# Altium footprint library ECE315.PcbLib: 10 footprints
Each footprint in its own frame and in the unit in brackets; x right, y up, seen from the top. Pads: shape width x height; smd on the part's side, far side on the other; paste and mask are expansions set on the pad; w line width, h text height; cw(c..) or ccw(c..) is an arc to the next point about the centre after c.
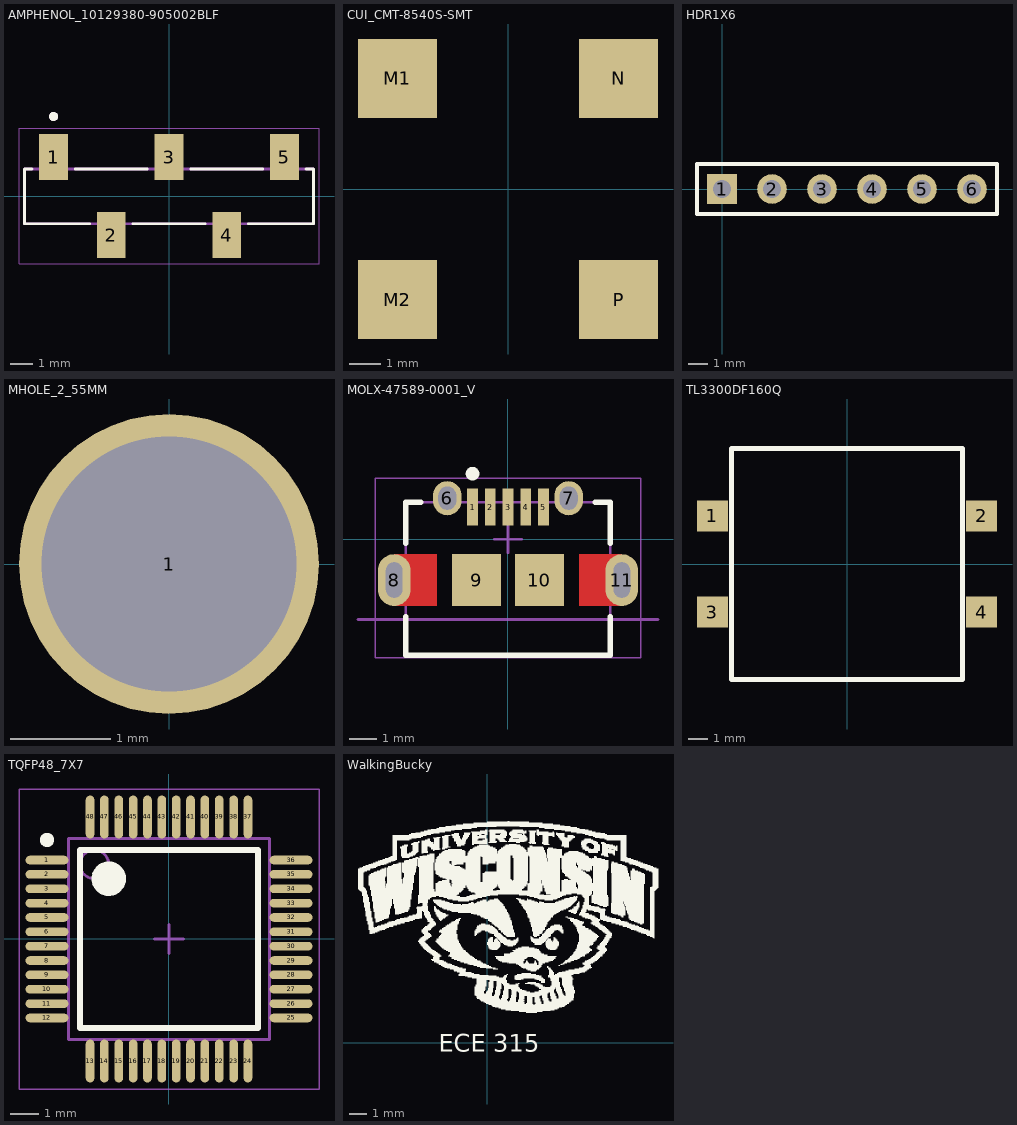
[diagram p0: the footprints below, top view; thin cyan lines are the x and y axes]

## AMPHENOL_10129380-905002BLF [mm]
pads (5):
  rect 1.27x2.03 smd mask+0.05: 1(-5.08,1.715) 2(-2.54,-1.715) 3(0,1.715) 4(2.54,-1.715) 5(5.08,1.715)
Top Overlay:
  circle w0.2: c-5.08,3.5 r0.1
  lines w0.127: -6.035,1.19 -6.35,1.19 -6.35,-1.22 -3.495,-1.22 ; -4.125,1.19 -0.955,1.19 ; -1.585,-1.22 1.585,-1.22 ; 0.955,1.19 4.125,1.19 ; 3.495,-1.22 6.35,-1.22 6.35,1.19 6.035,1.19
Mechanical 13:
  circle w0.2: c-5.08,3.5 r0.1
  lines w0.127: -6.35,-1.22 -6.35,1.19 6.35,1.19 6.35,-1.22 -6.35,-1.22
Mechanical 15:
  lines w0.05: -6.6,-2.98 -6.6,2.98 6.6,2.98 6.6,-2.98 -6.6,-2.98
3D body "step_temp.STEP": height 12.07, standoff 0.18, extent -6.27,-2.382 6.43,2.412

## CUI_CMT-8540S-SMT [mm]
pads (4):
  rect 2.5x2.5 smd: M1(-3.5,3.5) M2(-3.5,-3.5) N(3.5,3.5) P(3.5,-3.5)

## HDR1X6 [mm]
pads (6):
  rect 1.5x1.5 hole 0.9: 1(0,0)
  round 1.5 hole 0.9: 2(2.54,0) 3(5.08,0) 4(7.62,0) 5(10.16,0) 6(12.7,0)
Top Overlay:
  lines w0.2: -1.27,-1.27 13.97,-1.27 13.97,1.27 -1.27,1.27 -1.27,-1.27

## MHOLE_2_55MM [mm]
pads (1):
  round 3 / inner round 4.572 / far side round 4.318 hole 2.55: 1(0,0)

## MOLX-47589-0001_V [mm]
pads (11):
  rect 0.4x1.35 smd: 1(-1.3,1.175) 2(-0.65,1.175) 3(0,1.175) 4(0.65,1.175) 5(1.3,1.175)
  oval 1.05x1.25 hole 0.65 slot 0.85 at 90 deg: 6(-2.225,1.5) 7(2.225,1.5)
  oval 1.2x1.9 hole 0.6 slot 1.3 at 90 deg: 8(-4.175,-1.5) 11(4.175,-1.5)
  rect 1.8x1.9 smd: 9(-1.15,-1.5) 10(1.15,-1.5)
Top Layer:
  region: -2.6,-0.55 -4.175,-0.55 -4.175,-2.45 -2.6,-2.45
  rectangle: 2.6,-2.45 4.175,-0.55
Top Overlay:
  circle w0.25: c-1.3,2.4 r0.125
  lines w0.2: -3.75,-2.85 -3.75,-4.25 3.75,-4.25 3.75,-2.85 ; -3.75,-0.15 -3.75,1.35 -3.2,1.35 ; 3.2,1.35 3.75,1.35 3.75,-0.15
Mechanical 1:
  lines w0.1: -5.5,-2.95 5.5,-2.95
  text "PCB EDGE" at 5.7,-2.5 h1
Mechanical 13:
  lines w0.1: -3.75,-4.25 -3.75,1.35 3.75,1.35 3.75,-4.25 -3.75,-4.25
Mechanical 15:
  lines w0.05: -4.875,-4.35 4.875,-4.35 4.875,2.225 -4.875,2.225 -4.875,-4.35
  lines w0.1: -0.5,0 0.5,0 ; 0,-0.5 0,0.5
3D body "475890001.stp": height 2.74, standoff -0.57, extent -4.325,-4.25 4.325,1.644

## QFP127P600-8N [mm]
height 1.4

## TL3300DF160Q [mm] "SWITCH TACTILE SPST-NO 0.05A 12V"
pads (4):
  rect 1.6x1.6 smd: 1(-7,2.5) 2(7,2.5) 3(-7,-2.5) 4(7,-2.5)
Top Overlay:
  lines w0.254: -6,-6 6,-6 6,6 -6,6 -6,-6
3D body "TL3300DFxxxQ.stp": height 4.3, standoff -0.3, extent -7.507,-6.031 7.493,5.969

## TQFP48_7X7 [mm] "Infineon PSoC6 QFP48"
height 1.4
pads (48):
  oval 1.5x0.3 smd: 1(-4.25,2.75) 2(-4.25,2.25) 3(-4.25,1.75) 4(-4.25,1.25) 5(-4.25,0.75) 6(-4.25,0.25) 7(-4.25,-0.25) 8(-4.25,-0.75) 9(-4.25,-1.25) 10(-4.25,-1.75) 11(-4.25,-2.25) 12(-4.25,-2.75) 25(4.25,-2.75) 26(4.25,-2.25) 27(4.25,-1.75) 28(4.25,-1.25) 29(4.25,-0.75) 30(4.25,-0.25) 31(4.25,0.25) 32(4.25,0.75) 33(4.25,1.25) 34(4.25,1.75) 35(4.25,2.25) 36(4.25,2.75)
  oval 0.3x1.5 smd: 13(-2.75,-4.25) 14(-2.25,-4.25) 15(-1.75,-4.25) 16(-1.25,-4.25) 17(-0.75,-4.25) 18(-0.25,-4.25) 19(0.25,-4.25) 20(0.75,-4.25) 21(1.25,-4.25) 22(1.75,-4.25) 23(2.25,-4.25) 24(2.75,-4.25) 37(2.75,4.25) 38(2.25,4.25) 39(1.75,4.25) 40(1.25,4.25) 41(0.75,4.25) 42(0.25,4.25) 43(-0.25,4.25) 44(-0.75,4.25) 45(-1.25,4.25) 46(-1.75,4.25) 47(-2.25,4.25) 48(-2.75,4.25)
Top Overlay:
  circle w0.6: c-2.1,2.1 r0.3
  circle w0.25: c-4.25,3.45 r0.125
  lines w0.2: -3.1,-3.1 3.1,-3.1 3.1,3.1 -3.1,3.1 -3.1,-3.1
Top Courtyard:
  lines w0.05: -5.225,-5.225 5.225,-5.225 5.225,5.225 -5.225,5.225 -5.225,-5.225
  lines w0.1: -0.5,0 0.5,0 ; 0,-0.5 0,0.5
Top Assembly:
  circle w0.1: c-2.6,2.6 r0.5
  lines w0.1: -3.5,-3.5 3.5,-3.5 3.5,3.5 -3.5,3.5 -3.5,-3.5
Mechanical 10:
  text "Pe Yu Lin" at -6.35,-7.239 h1.52
3D body "TQFP48_7X7.step": height 1.4, standoff 0, extent -4.5,-4.5 4.5,4.5

## TQFP48_7X7X1P4_CYP-M [mm]

## WalkingBucky [mm]
Top Overlay:
  drawing of 2083 lines, arcs and shapes, not listed
  text "ECE 315" at -2.794,-0.508 h1.02